# EAGLE library part DMG9926 (library DMG9926)
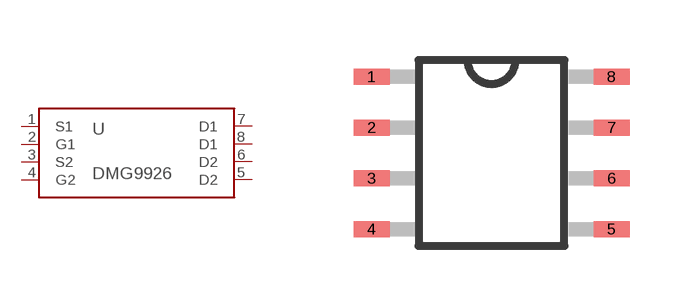
[diagram p0: symbol with the pads of SOP8-L; footprint SOP8-L]

Designator prefix -

## DMG9926  [SOP8-L]
1  S1  in
2  G1  in
3  S2  in
4  G2  in
5  D2  out
6  D2  out
7  D1  out
8  D1  out

## Footprint SOP8-L (pad centres in mm)
SOP8-L Auto generated by make-symbol-device-package-bsdl.ulp Rev. 43
smd 0.9 x 0.4: 1 -3,1.905; 2 -3,0.635; 3 -3,-0.635; 4 -3,-1.905; 5 3,-1.905; 6 3,-0.635; 7 3,0.635; 8 3,1.905